# EAGLE library part CARAMBOLA_2 (library PonLib)
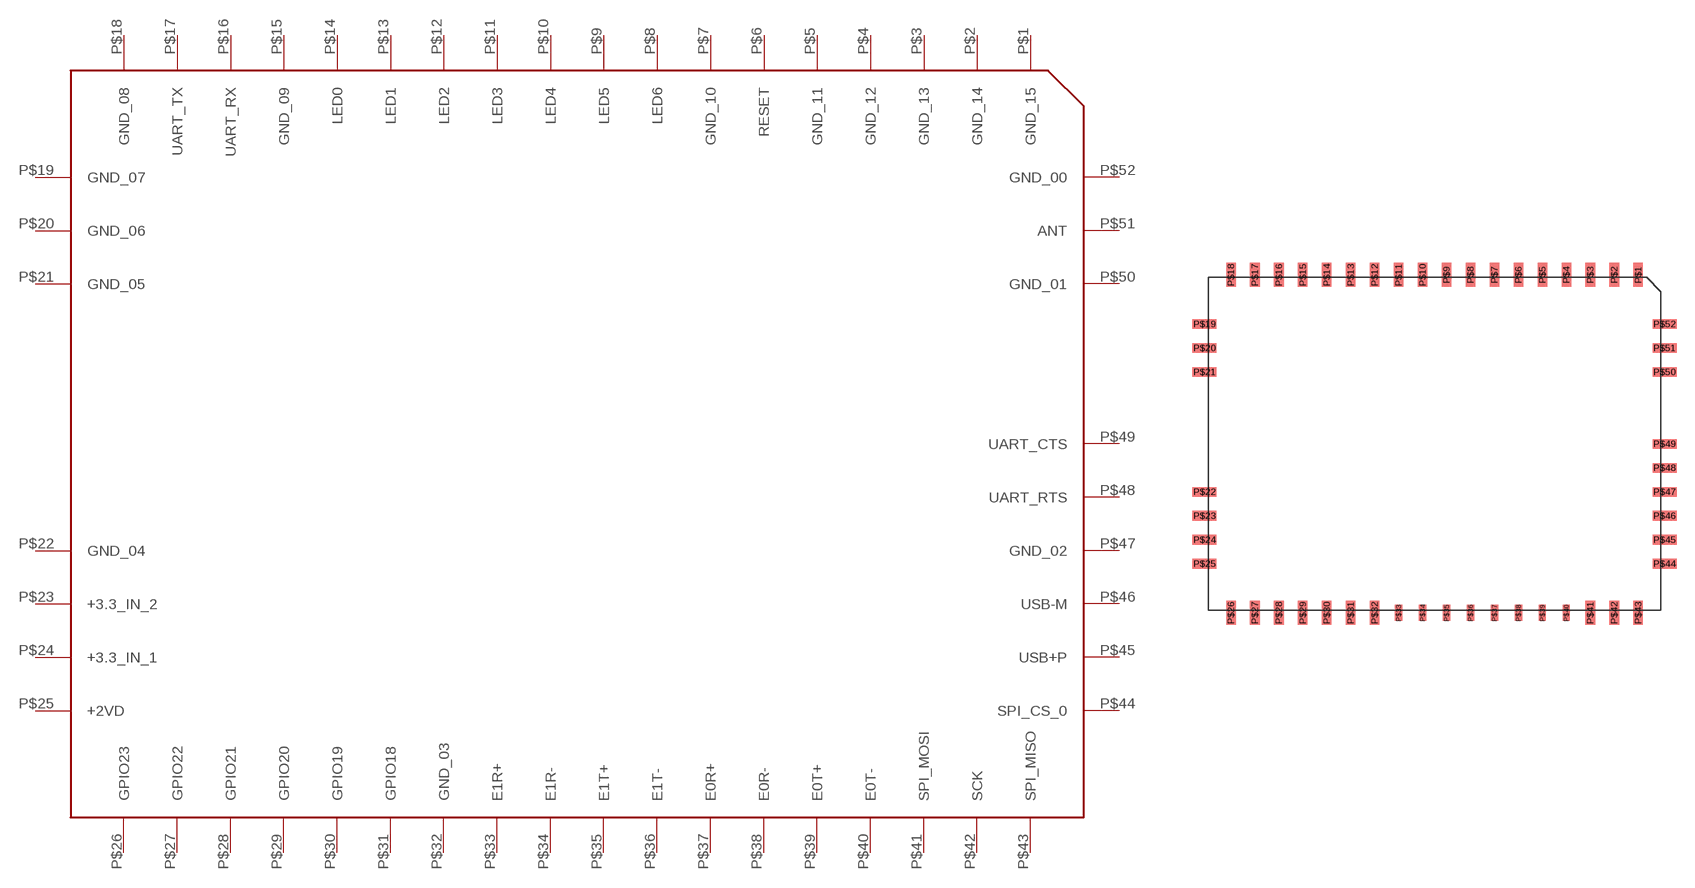
[diagram p17: symbol with the pads of CARAMBOLA_2; footprint CARAMBOLA_2]

Designator prefix -

## CARAMBOLA_2  [CARAMBOLA_2]
P$1  GND_15
P$2  GND_14
P$3  GND_13
P$4  GND_12
P$5  GND_11
P$6  RESET
P$7  GND_10
P$8  LED6
P$9  LED5
P$10  LED4
P$11  LED3
P$12  LED2
P$13  LED1
P$14  LED0
P$15  GND_09
P$16  UART_RX
P$17  UART_TX
P$18  GND_08
P$19  GND_07
P$20  GND_06
P$21  GND_05
P$22  GND_04
P$23  +3.3_IN_2
P$24  +3.3_IN_1
P$25  +2VD
P$26  GPIO23
P$27  GPIO22
P$28  GPIO21
P$29  GPIO20
P$30  GPIO19
P$31  GPIO18
P$32  GND_03
P$33  E1R+
P$34  E1R-
P$35  E1T+
P$36  E1T-
P$37  E0R+
P$38  E0R-
P$39  E0T+
P$40  E0T-
P$41  SPI_MOSI
P$42  SCK
P$43  SPI_MISO
P$44  SPI_CS_0
P$45  USB+P
P$46  USB-M
P$47  GND_02
P$48  UART_RTS
P$49  UART_CTS
P$50  GND_01
P$51  ANT
P$52  GND_00

## Footprint CARAMBOLA_2 (pad centres in mm)
smd 0.8 x 2: P$1 17,14.1; P$2 15,14.1; P$3 13,14.1; P$4 11,14.1; P$5 9,14.1; P$6 7,14.1; P$7 5,14.1; P$8 3,14.1; P$9 1,14.1; P$10 -1,14.1; P$11 -3,14.1; P$12 -5,14.1; P$13 -7,14.1; P$14 -9,14.1; P$15 -11,14.1; P$16 -13,14.1; P$17 -15,14.1; P$18 -17,14.1; P$26 -17,-14.1; P$27 -15,-14.1; P$28 -13,-14.1; P$29 -11,-14.1; P$30 -9,-14.1; P$31 -7,-14.1; P$32 -5,-14.1; P$41 13,-14.1; P$42 15,-14.1; P$43 17,-14.1
smd 2 x 0.8: P$19 -19.2,10; P$20 -19.2,8; P$21 -19.2,6; P$22 -19.2,-4; P$23 -19.2,-6; P$24 -19.2,-8; P$25 -19.2,-10; P$44 19.2,-10; P$45 19.2,-8; P$46 19.2,-6; P$47 19.2,-4; P$48 19.2,-2; P$49 19.2,0; P$50 19.2,6; P$51 19.2,8; P$52 19.2,10
smd 0.61 x 1.321: P$33 -3,-14.1; P$34 -1,-14.1; P$35 1,-14.1; P$36 3,-14.1; P$37 5,-14.1; P$38 7,-14.1; P$39 9,-14.1; P$40 11,-14.1